# Altium footprint library PcbLib1.PcbLib: 1 footprints
Each footprint in its own frame and in the unit in brackets; x right, y up, seen from the top. Pads: shape width x height; smd on the part's side, far side on the other; paste and mask are expansions set on the pad; w line width, h text height; cw(c..) or ccw(c..) is an arc to the next point about the centre after c.
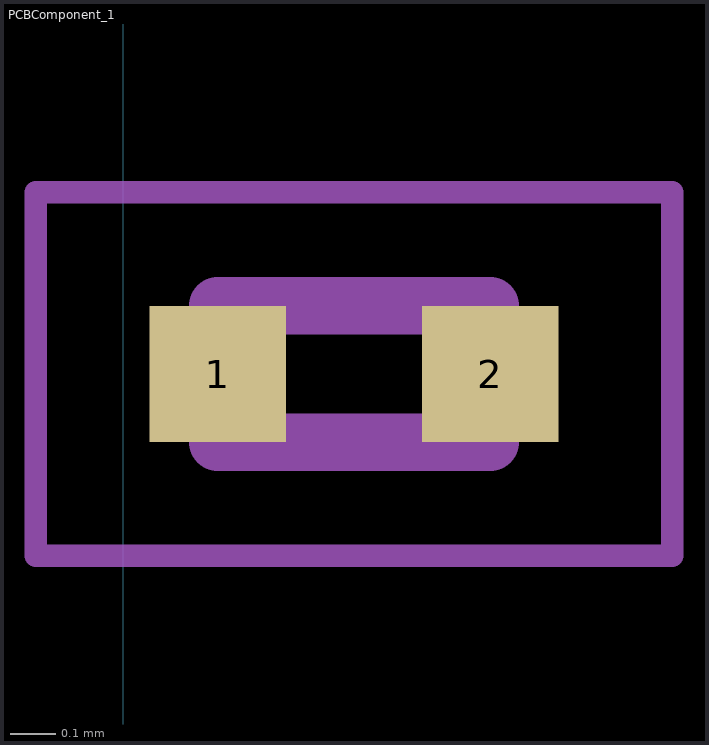
[diagram p0: the footprint, top view; thin cyan lines are the x and y axes]

## PCBComponent_1 [mm]
pads (2):
  rect 0.3x0.3 smd: 1(0.208,1.905) 2(0.808,1.905)
Mechanical 13:
  lines w0.127: 0.208,1.755 0.208,2.055 0.808,2.055 0.808,1.755 0.208,1.755
Mechanical 15:
  lines w0.05: -0.192,1.505 -0.192,2.305 1.208,2.305 1.208,1.505 -0.192,1.505
Mechanical 2 (Mech29):
  lines w0.05: -0.192,1.505 -0.192,2.305 1.208,2.305 1.208,1.505 -0.192,1.505
3D body "LQP03HQ2N0B02D.STEP": height 0.31, standoff 0.01, extent 0.208,1.695 0.808,2.115